# EAGLE library part LT1936 (library mod_eagle_library_LINEAR_TECHNOLOGY)
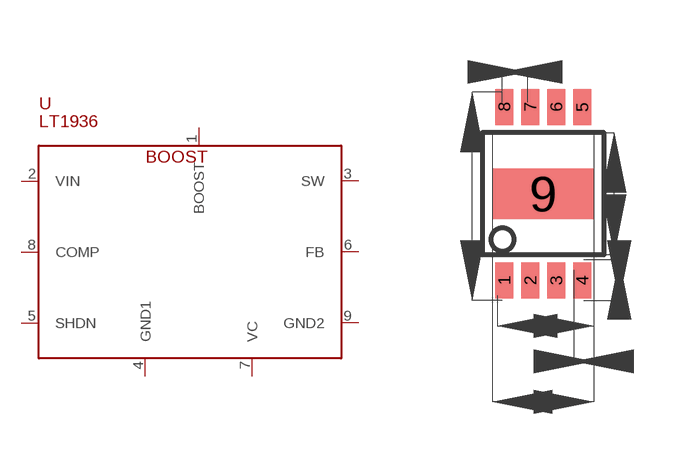
[diagram p0: symbol with the pads of MSOP8; footprint MSOP8]

Designator prefix -

## LT1936  [MSOP8]
1  BOOST
2  VIN
3  SW
4  GND1
5  SHDN
6  FB
7  VC
8  COMP
9  GND2

## Footprint MSOP8 (pad centres in mm)
MSE8
smd 0.45 x 0.9: 1 -0.975,-2.171; 2 -0.325,-2.171; 3 0.325,-2.171; 4 0.975,-2.171; 5 0.975,2.171; 6 0.325,2.171; 7 -0.325,2.171; 8 -0.975,2.171
smd 2.54 x 1.27: 9 0,0